# EAGLE library part MP2565DQ-LF-Z (library MP2565DQ-LF-Z)
IC REG BUCK ADJ 2.5A 10QFN Source: Datasheet <https://www.monolithicpower.com/pub/media/document/MP2565_r1.01.pdf>
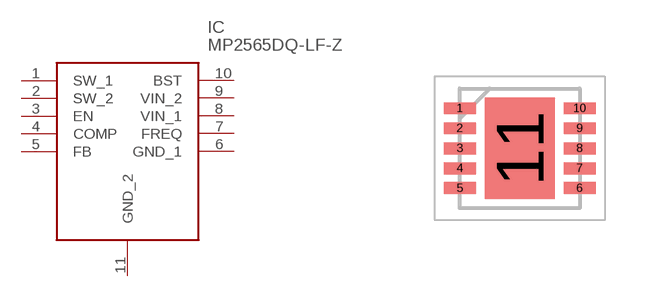
[diagram p0: symbol with the pads of SON50P300X300X100-11N; footprint SON50P300X300X100-11N]

Designator prefix IC

## MP2565DQ-LF-Z (Description: IC REG BUCK ADJ 2.5A 10QFN; Height: 1mm; Manufacturer_Name: Monolithic Power Systems (MPS); Manufacturer_Part_Number: MP2565DQ-LF-Z; Mouser_Part_Number: 946-MP2565DQLFZ; Mouser_Price-Stock: https://www.mouser.co.uk/ProductDetail/Monolithic-Power-Systems-MPS/MP2565DQ-LF-Z?qs=rC7bBWoQAAmMkZIf8RxmTw%3D%3D)  [SON50P300X300X100-11N]
1  SW_1
2  SW_2
3  EN
4  COMP
5  FB
6  GND_1
7  FREQ
8  VIN_1
9  VIN_2
10  BST
11  GND_2

## Footprint SON50P300X300X100-11N (pad centres in mm)
3mm x 3mm QFN10 (EXPOSED PAD)
smd 0.8 x 0.3: 1 -1.5,1; 2 -1.5,0.5; 3 -1.5,0; 4 -1.5,-0.5; 5 -1.5,-1; 6 1.5,-1; 7 1.5,-0.5; 8 1.5,0; 9 1.5,0.5; 10 1.5,1
smd 1.75 x 2.55: 11 0,0